# EAGLE library part MAX5217 (library df4iah_dac)
Maxim Integrated MAX5217 DAC DAC 16 bit, I2C
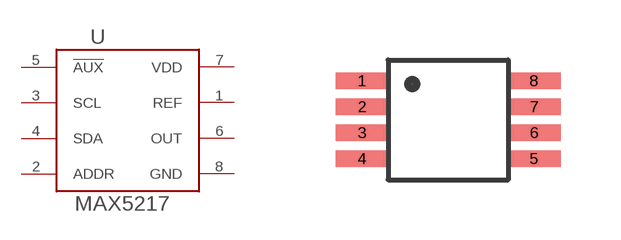
[diagram p0: symbol with the pads of µMAX8; footprint µMAX8]

Designator prefix U

## MAX5217  [µMAX8]
1  REF  pas
2  ADDR  in
3  SCL  in
4  SDA  hiz
5  !AUX  in
6  OUT  pas
7  VDD  pwr
8  GND  pas

## Footprint µMAX8 (pad centres in mm)
µMAX8
smd 1.35 x 0.4: 1 -2.15,0.975; 2 -2.15,0.325; 3 -2.15,-0.325; 4 -2.15,-0.975; 5 2.15,-0.975; 6 2.15,-0.325; 7 2.15,0.325; 8 2.15,0.975